# EAGLE library part D-SUN_DC/DC (library ipas)
DC/DC Converter This first one was from an eBay <http://www.ebay.com.au/itm/131167655600> seller and is simply marked “D-SUN”. It’s a tiny (22mm x 17mm) SMD board that claims: Output current: 3A max Output voltage range: 0.8V – 20V DC Input voltage range: 4.5V – 28V DC
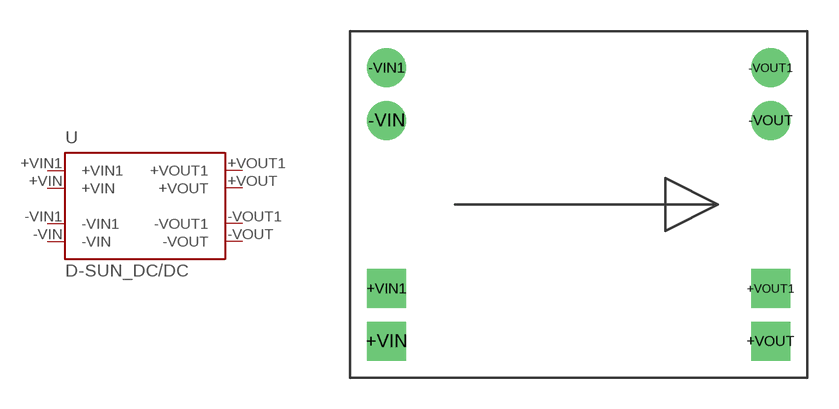
[diagram p24: symbol with the pads of D-SUN_DC/DC; footprint D-SUN_DC/DC]

Designator prefix U

## D-SUN_DC/DC  [D-SUN_DC/DC]
+VIN  +VIN  pas
+VIN1  +VIN1  pas
+VOUT  +VOUT  pas
+VOUT1  +VOUT1  pas
-VIN  -VIN  pas
-VIN1  -VIN1  pas
-VOUT  -VOUT  pas
-VOUT1  -VOUT1  pas

## Footprint D-SUN_DC/DC (pad centres in mm)
drill 1.016 pad 1.88 square: +VIN 1.778,1.778; +VIN1 1.778,4.318; +VOUT 20.32,1.778; +VOUT1 20.32,4.318
drill 1.016 pad 1.88: -VIN 1.778,12.446; -VIN1 1.778,14.986; -VOUT 20.32,12.446; -VOUT1 20.32,14.986